# Altium schematic symbol library LTC2365.SchLib: 1 symbol
Pins are listed as number, name and electrical type; pins without a type are passive.

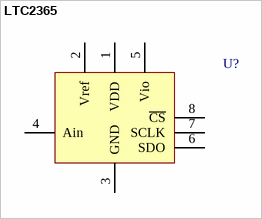
[diagram p0: symbol LTC2365]

## LTC2365
designator U?  (value not drawn)
IC, A/D Converter
pins: 1 VDD, 2 Vref, 3 GND, 4 Ain, 5 Vio, 6 SDO, 7 SCLK, 8 ~{CS}, 9 D0 hidden, 10 D1 hidden, 11 D2/DIVSCLK[0] hidden, 12 D3/DIVSCLK[1] hidden, 16 D7/RDC/SDIN hidden, 23 D10/SYNC hidden, 24 D11/RDERROR hidden, 25 D12 hidden, 26 D13 hidden, 27 D14 hidden, 28 D15 hidden, 30 ~{EOC} hidden